# Altium schematic symbol library REF5025.Schlib: 1 symbol
Pins are listed as number, name and electrical type; pins without a type are passive.

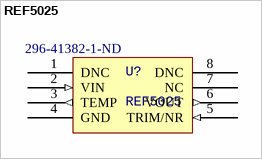
[diagram p0: symbol REF5025]

## REF5025
designator U?  Supplier Part Number 1: 296-41382-1-ND
Voltage Reference; Supplier 1: Digi-Key
footprint SOP65P300X125-8N (SOP + Pitch P + Lead Span Nominal X Height - #Pins)
pins: 1 DNC, 2 VIN (in), 3 TEMP (out), 4 GND (power), 5 TRIM/NR (in), 6 VOUT (out), 7 NC, 8 DNC